# EAGLE library part SN65HVD232D (library serial_interfaces)
IC CAN TRANSCEIVER 3.3V 8-SOIC
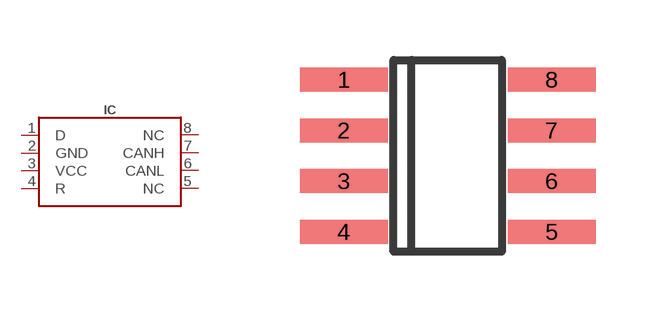
[diagram p0: symbol with the pads of SOIC8; footprint SOIC8]

Designator prefix IC

## SN65HVD232D (DIGIKEY#: 296-26344-1-ND; MANF: Texas Instruments; MANF#: SN65HVD232DR)  [SOIC8]
1  D
2  GND
3  VCC
4  R
5  NC
6  CANL
7  CANH
8  NC

## Footprint SOIC8 (pad centres in mm)
Small Outline IC
smd 2.2 x 0.6: 1 -2.6,1.905; 2 -2.6,0.635; 3 -2.6,-0.635; 4 -2.6,-1.905; 5 2.6,-1.905; 6 2.6,-0.635; 7 2.6,0.635; 8 2.6,1.905